# Altium integrated library 157.IntLib: 2 symbols
Pins are listed as number, name and electrical type; pins without a type are passive.

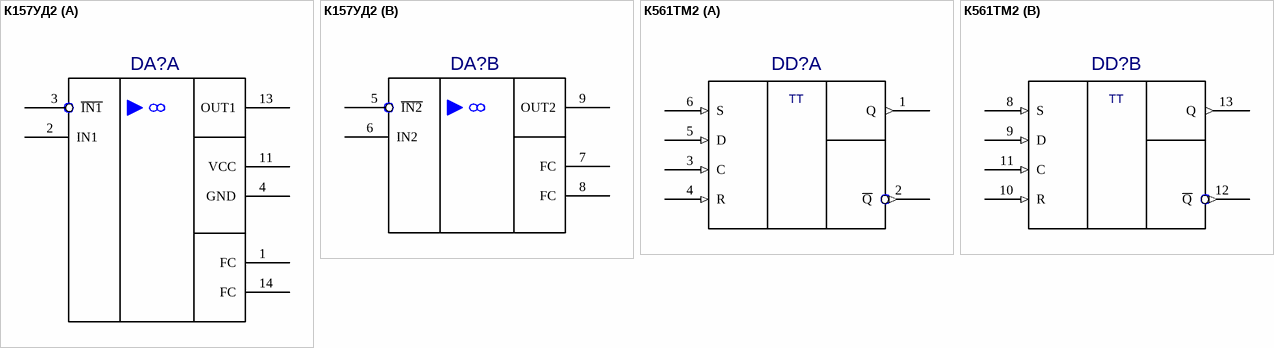
[diagram p0: symbols К157УД2 to К561ТМ2]

## К157УД2
designator DA?  (value not drawn)
Author: pcbdesigner.ru; Value: *
footprint DIP-14_MM
pins on every part: 10 hidden, 12 hidden
part A pins: 1 FC, 2 IN1, 3 ~{IN1}, 4 GND, 11 VCC, 13 OUT1, 14 FC
part B pins: 5 ~{IN2}, 6 IN2, 7 FC, 8 FC, 9 OUT2

## К561ТМ2
designator DD?  (value not drawn)
Author: pcbdesigner.ru; Value: *
footprint DIP-14
pins on every part: 7 GND (power) hidden, 14 VCC (power) hidden
part A pins: 1 Q (out), 2 ~{Q} (out), 3 C (in), 4 R (in), 5 D (in), 6 S (in)
part B pins: 8 S (in), 9 D (in), 10 R (in), 11 C (in), 12 ~{Q} (out), 13 Q (out)
part A text: TT
part B text: TT